# Altium schematic symbol library SN74LVC2G17.SchLib: 1 symbol
Pins are listed as number, name and electrical type; pins without a type are passive.

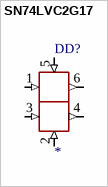
[diagram p0: symbol SN74LVC2G17]

## SN74LVC2G17
designator DD?
SOT23-6: DBV
footprint SOT23-6
pins: 1 (in), 2 (in), 3 (in), 4 (out), 5 (in), 6 (out)